# Altium schematic symbol library Keys.SchLib: 3 symbols
Pins are listed as number, name and electrical type; pins without a type are passive.

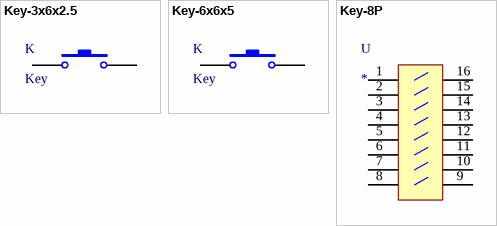
[diagram p0: symbols Key-3x6x2.5 to Key-8P]

## Key-3x6x2.5
designator K, comment Key
footprint Key-3x6x2.5
pins: 1, 2

## Key-6x6x5
designator K, comment Key
footprint KEY-6x6x5
pins: 1, 2

## Key-8P
designator U
footprint Key-8P-127
pins: 1, 2, 3, 4, 5, 6, 7, 8, 9, 10, 11, 12, 13, 14, 15, 16